# Altium schematic symbol library Real_Time_Clocks.SchLib: 1 symbol
Pins are listed as number, name and electrical type; pins without a type are passive.

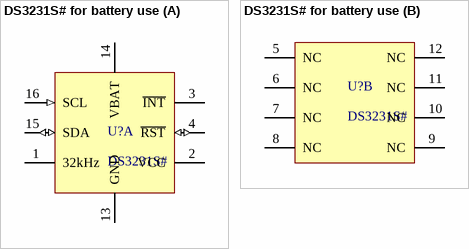
[diagram p0: symbol DS3231S# for battery use]

## DS3231S# for battery use
designator U?, comment DS3231S#
IC RTC CLK/CALENDAR I2C 16SOIC. Symbol used with battery as the main supply voltage.
footprint SOIC_16_M (SOIC, 16-Leads, Body 10.3x7.5mm, Pitch 1.27mm, IPC Low Density)
part A pins: 1 32kHz (oc), 2 VCC (power), 3 ~{INT} (oc), 4 ~{RST} (io), 13 GND (power), 14 VBAT (power), 15 SDA (io), 16 SCL (in)
part B pins: 5 NC, 6 NC, 7 NC, 8 NC, 9 NC, 10 NC, 11 NC, 12 NC